# Altium footprint library BreakoutBoard.PcbLib: 2 footprints
Each footprint in its own frame and in the unit in brackets; x right, y up, seen from the top. Pads: shape width x height; smd on the part's side, far side on the other; paste and mask are expansions set on the pad; w line width, h text height; cw(c..) or ccw(c..) is an arc to the next point about the centre after c.
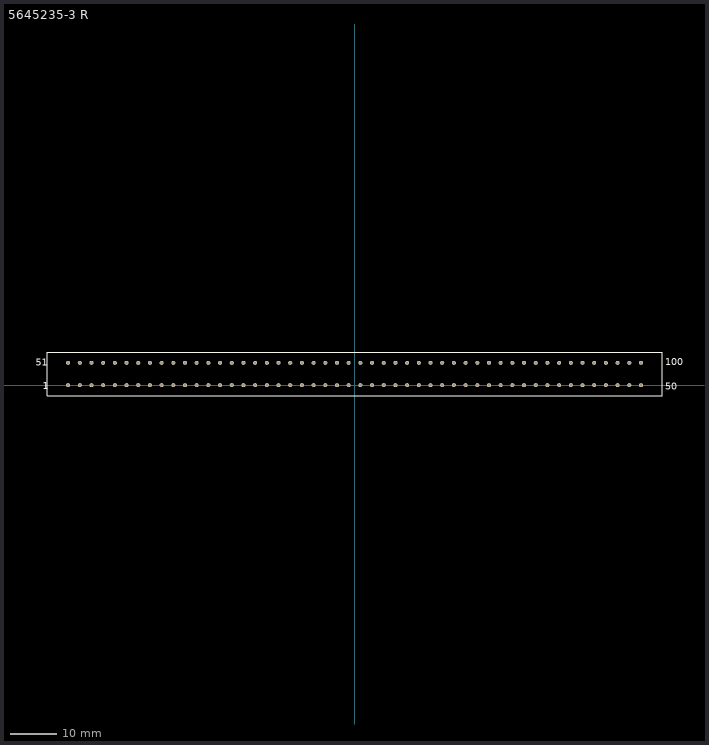
[diagram p0: the footprints below, top view; thin cyan lines are the x and y axes]

## 5645235-3 R [mil] "Receptor"
pads (100):
  round 35 hole 25 mask+0: 1(-2450,0) 2(-2350,0) 3(-2250,0) 4(-2150,0) 5(-2050,0) 6(-1950,0) 7(-1850,0) 8(-1750,0) 9(-1650,0) 10(-1550,0) 11(-1450,0) 12(-1350,0) 13(-1250,0) 14(-1150,0) 15(-1050,0) 16(-950,0) 17(-850,0) 18(-750,0) 19(-650,0) 20(-550,0) 21(-450,0) 22(-350,0) 23(-250,0) 24(-150,0) 25(-50,0) 26(50,0) 27(150,0) 28(250,0) 29(350,0) 30(450,0) 31(550,0) 32(650,0) 33(750,0) 34(850,0) 35(950,0) 36(1050,0) 37(1150,0) 38(1250,0) 39(1350,0) 40(1450,0) 41(1550,0) 42(1650,0) 43(1750,0) 44(1850,0) 45(1950,0) 46(2050,0) 47(2150,0) 48(2250,0) 49(2350,0) 50(2450,0) 51(-2450,191) 52(-2350,191) 53(-2250,191) 54(-2150,191) 55(-2050,191) 56(-1950,191) 57(-1850,191) 58(-1750,191) 59(-1650,191) 60(-1550,191) 61(-1450,191) 62(-1350,191) 63(-1250,191) 64(-1150,191) 65(-1050,191) 66(-950,191) 67(-850,191) 68(-750,191) 69(-650,191) 70(-550,191) 71(-450,191) 72(-350,191) 73(-250,191) 74(-150,191) 75(-50,191) 76(50,191) 77(150,191) 78(250,191) 79(350,191) 80(450,191) 81(550,191) 82(650,191) 83(750,191) 84(850,191) 85(950,191) 86(1050,191) 87(1150,191) 88(1250,191) 89(1350,191) 90(1450,191) 91(1550,191) 92(1650,191) 93(1750,191) 94(1850,191) 95(1950,191) 96(2050,191) 97(2150,191) 98(2250,191) 99(2350,191) 100(2450,191)
Top Overlay:
  lines w7.87: -2630,-89 -2630,280 2630,280 2630,-89 -2630,-89
  text "100" at 2657,170 h60
  text "50" at 2657,-41 h60
  text "51" at -2726.04,165 h60
  text "1" at -2666.06,-35 h60
3D body: height 295, standoff 0, extent -2630,-89 2630,280

## PCBComponent_1 [mil]